# Altium schematic symbol library JR_expansion.SchLib: 3 symbols
Pins are listed as number, name and electrical type; pins without a type are passive.

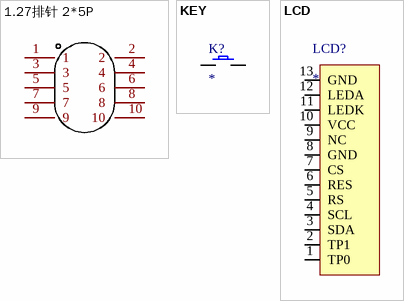
[diagram p0: symbols 1.27排针 2*5P to LCD]

## 1.27排针 2*5P
designator U?, comment 2343U-205CNG1SNT01  (value not drawn)
Manufacturer: 华宇创; Add into BOM: yes; Pitch: 1.27mm; Number of Holes: 10; Holes Structure: 2x5P; Name: 2343U-205CNG1SNT01; Symbol: 2343U-205CNG1SNT01; Device: 2343U-205CNG1SNT01; LCSC Part Name: 1.27mm 2x5P U型/环保耐高温/镀金; Supplier Part: C350287; Manufacturer Part: 2343U-205CNG1SNT01; Supplier Footprint: 插件,P=1.27mm; JLCPCB Part Class: Extended Part; Datasheet: https://atta.szlcsc.com/upload/public/pdf/source/20181220/C350287_D742F1AEC20B5CCE37A83D869655120C.pdf; Supplier: LCSC; Convert to PCB: yes; Number of Rows: 2; Row Spacing: 1.27mm; Mounting Type: 直插; Insulation Height: -; Contact Material: 磷青铜; Contact Plating: -
footprint HDR-TH_10P-P1.27-V-F-R2-C5-S1.27-1
footprint CONN-SMD_10P-P1.27_XFCN_PZ127VS-12-10-H10-A38
pins: 1, 2, 3, 4, 5, 6, 7, 8, 9, 10

## KEY
designator K?
footprint Key
pins: 1, 2

## LCD
designator LCD?
footprint lcd 0.96‘
pins: 1 TP0, 2 TP1, 3 SDA, 4 SCL, 5 RS, 6 RES, 7 CS, 8 GND, 9 NC, 10 VCC, 11 LEDK, 12 LEDA, 13 GND